# EAGLE library part TILDAGON-HEXPANSION (library pimoroni-connectors)
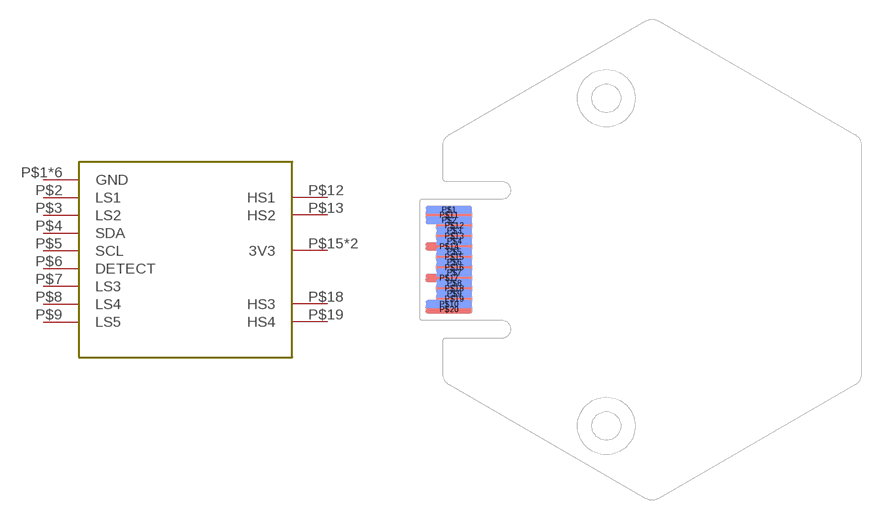
[diagram p27: symbol with the pads of TILDAGON-HEXPANSION; footprint TILDAGON-HEXPANSION]

Designator prefix -

## TILDAGON-HEXPANSION  [TILDAGON-HEXPANSION]
P$1  GND  pwr
P$2  LS1
P$3  LS2
P$4  SDA
P$5  SCL
P$6  DETECT
P$7  LS3
P$8  LS4
P$9  LS5
P$10  GND  pwr
P$11  GND  pwr
P$12  HS1
P$13  HS2
P$14  GND  pwr
P$15  3V3  pwr
P$16  3V3  pwr
P$17  GND  pwr
P$18  HS3
P$19  HS4
P$20  GND  pwr

## Footprint TILDAGON-HEXPANSION (pad centres in mm)
smd 3.5 x 0.6 bottom: P$1 2.25,4; P$2 2.25,3.2; P$10 2.25,-3.2
smd 2.7 x 0.6 bottom: P$3 2.65,2.4; P$4 2.65,1.6; P$5 2.65,0.8; P$6 2.65,0; P$7 2.65,-0.8; P$8 2.65,-1.6; P$9 2.65,-2.4
smd 3.5 x 0.6: P$11 2.25,3.6; P$14 2.25,1.2; P$17 2.25,-1.2; P$20 2.25,-3.6
smd 2.7 x 0.6: P$12 2.65,2.8; P$13 2.65,2; P$15 2.65,0.4; P$16 2.65,-0.4; P$18 2.65,-2; P$19 2.65,-2.8